# Altium schematic symbol library GSM_M95.SchLib: 1 symbol
Pins are listed as number, name and electrical type; pins without a type are passive.

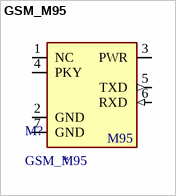
[diagram p0: symbol GSM_M95]

## GSM_M95
designator M?
GSM_M95 Module Symbol; LCSC: *
footprint GSM_M95
pins: 1 NC, 2 GND, 3 PWR (power), 4 PKY (io), 5 TXD (out), 6 RXD (in), 7 GND
text: M95